# Altium schematic symbol library microSD.SchLib: 1 symbol
Pins are listed as number, name and electrical type; pins without a type are passive.

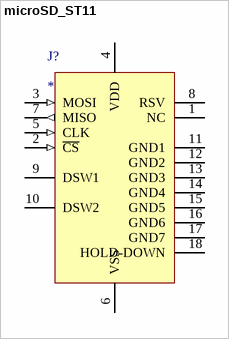
[diagram p0: symbol microSD_ST11]

## microSD_ST11
designator J?
JAE ST11 MicroSD Card Push-Push Socket
pins: 1 NC, 2 ~{CS} (in), 3 MOSI (in), 4 VDD (power), 5 CLK (in), 6 VSS (power), 7 MISO (out), 8 RSV, 9 DSW1, 10 DSW2, 11 GND1, 12 GND2, 13 GND3, 14 GND4, 15 GND5, 16 GND6, 17 GND7, 18 HOLD-DOWN